# EAGLE library part CYUSB3014 (library ICs)
EZ-USB™ FX3 USB 5 Gbps Peripheral Controller
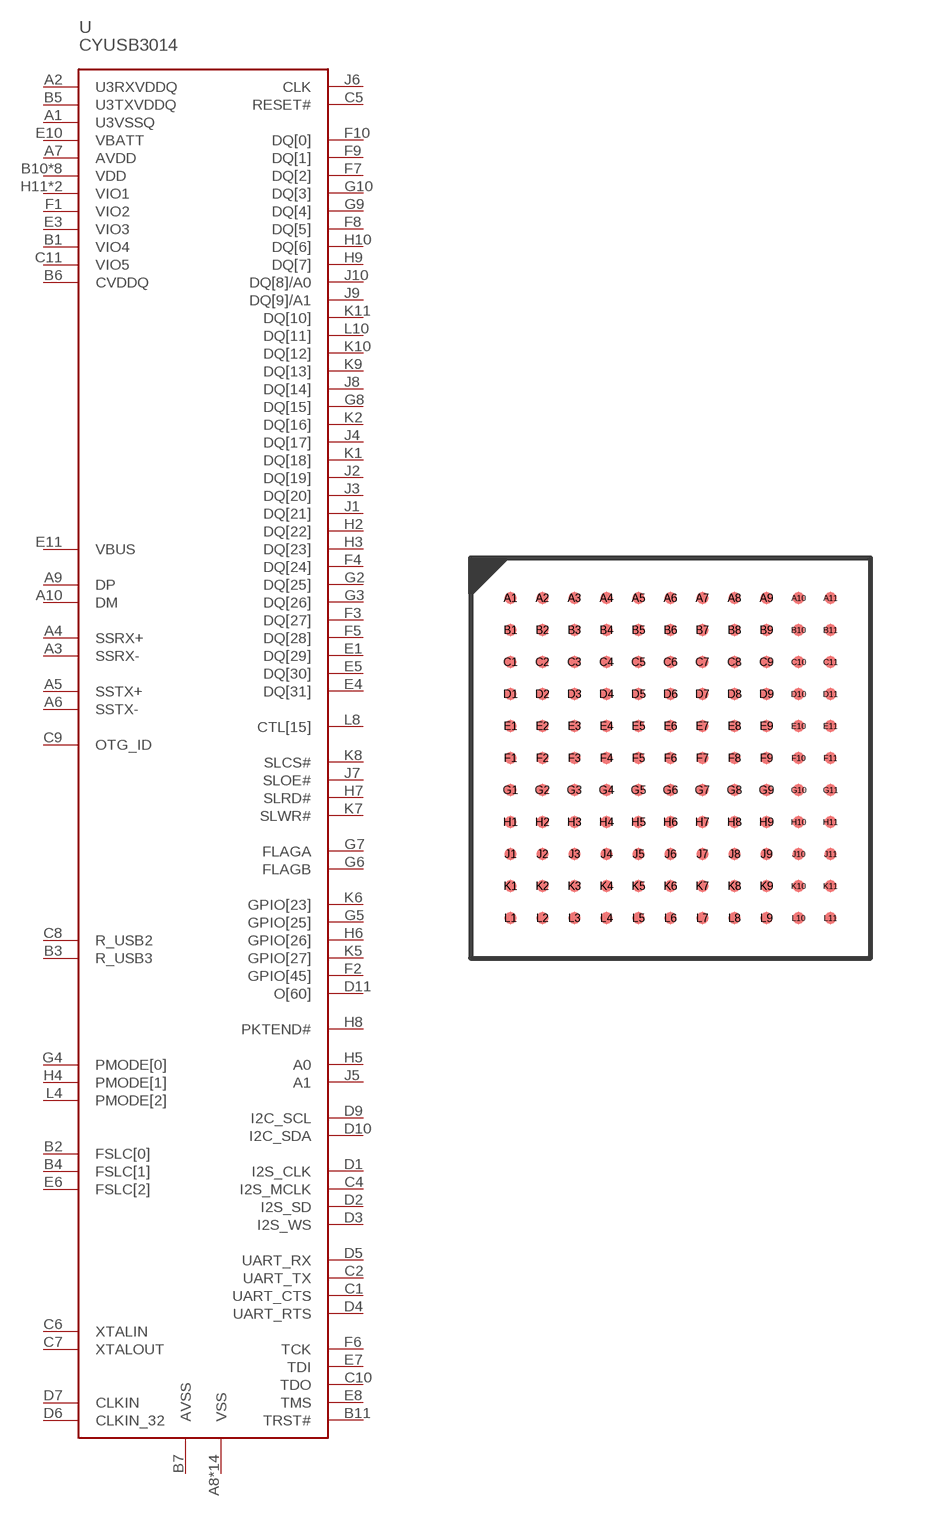
[diagram p327: symbol with the pads of BGA121; footprint BGA121]

Designator prefix U

## CYUSB3014-BZXC (DIGIKEY: 448-CYUSB3014-BZXC-ND; HEIGHT: 1.5; PRICE_PER: 24.48; VALUE: CYUSB3014)  [BGA121]
A1  U3VSSQ
A2  U3RXVDDQ
A3  SSRX-
A4  SSRX+
A5  SSTX+
A6  SSTX-
A7  AVDD
A8  VSS
A9  DP
A10  DM
B1  VIO4
B2  FSLC[0]
B3  R_USB3
B4  FSLC[1]
B5  U3TXVDDQ
B6  CVDDQ
B7  AVSS
B8  VSS
B9  VSS
B10  VDD
B11  TRST#
C1  UART_CTS
C2  UART_TX
C3  VDD
C4  I2S_MCLK
C5  RESET#
C6  XTALIN
C7  XTALOUT
C8  R_USB2
C9  OTG_ID
C10  TDO
C11  VIO5
D1  I2S_CLK
D2  I2S_SD
D3  I2S_WS
D4  UART_RTS
D5  UART_RX
D6  CLKIN_32
D7  CLKIN
D8  VSS
D9  I2C_SCL
D10  I2C_SDA
D11  O[60]
E1  DQ[29]
E2  VSS
E3  VIO3
E4  DQ[31]
E5  DQ[30]
E6  FSLC[2]
E7  TDI
E8  TMS
E9  VDD
E10  VBATT
E11  VBUS
F1  VIO2
F2  GPIO[45]
F3  DQ[27]
F4  DQ[24]
F5  DQ[28]
F6  TCK
F7  DQ[2]
F8  DQ[5]
F9  DQ[1]
F10  DQ[0]
F11  VDD
G1  VSS
G2  DQ[25]
G3  DQ[26]
G4  PMODE[0]
G5  GPIO[25]
G6  FLAGB
G7  FLAGA
G8  DQ[15]
G9  DQ[4]
G10  DQ[3]
G11  VSS
H1  VDD
H2  DQ[22]
H3  DQ[23]
H4  PMODE[1]
H5  A0
H6  GPIO[26]
H7  SLRD#
H8  PKTEND#
H9  DQ[7]
H10  DQ[6]
H11  VIO1
J1  DQ[21]
J2  DQ[19]
J3  DQ[20]
J4  DQ[17]
J5  A1
J6  CLK
J7  SLOE#
J8  DQ[14]
J9  DQ[9]/A1
J10  DQ[8]/A0
J11  VDD
K1  DQ[18]
K2  DQ[16]
K3  VSS
K4  VSS
K5  GPIO[27]
K6  GPIO[23]
K7  SLWR#
K8  SLCS#
K9  DQ[13]
K10  DQ[12]
K11  DQ[10]
L1  VSS
L2  VSS
L3  VSS
L4  PMODE[2]
L5  VDD
L6  VSS
L7  VDD
L8  CTL[15]
L9  VIO1
L10  DQ[11]
L11  VSS

## Footprint BGA121 (pad centres in mm)
smd 0.3 x 0.3: A1 -4,4; A2 -3.2,4; A3 -2.4,4; A4 -1.6,4; A5 -0.8,4; A6 0,4; A7 0.8,4; A8 1.6,4; A9 2.4,4; A10 3.2,4; A11 4,4; B1 -4,3.2; B2 -3.2,3.2; B3 -2.4,3.2; B4 -1.6,3.2; B5 -0.8,3.2; B6 0,3.2; B7 0.8,3.2; B8 1.6,3.2; B9 2.4,3.2; B10 3.2,3.2; B11 4,3.2; C1 -4,2.4; C2 -3.2,2.4; C3 -2.4,2.4; C4 -1.6,2.4; C5 -0.8,2.4; C6 0,2.4; C7 0.8,2.4; C8 1.6,2.4; C9 2.4,2.4; C10 3.2,2.4; C11 4,2.4; D1 -4,1.6; D2 -3.2,1.6; D3 -2.4,1.6; D4 -1.6,1.6; D5 -0.8,1.6; D6 0,1.6; D7 0.8,1.6; D8 1.6,1.6; D9 2.4,1.6; D10 3.2,1.6; D11 4,1.6; E1 -4,0.8; E2 -3.2,0.8; E3 -2.4,0.8; E4 -1.6,0.8; E5 -0.8,0.8; E6 0,0.8; E7 0.8,0.8; E8 1.6,0.8; E9 2.4,0.8; E10 3.2,0.8; E11 4,0.8; F1 -4,0; F2 -3.2,0; F3 -2.4,0; F4 -1.6,0; F5 -0.8,0; F6 0,0; F7 0.8,0; F8 1.6,0; F9 2.4,0; F10 3.2,0; F11 4,0; G1 -4,-0.8; G2 -3.2,-0.8; G3 -2.4,-0.8; G4 -1.6,-0.8; G5 -0.8,-0.8; G6 0,-0.8; G7 0.8,-0.8; G8 1.6,-0.8; G9 2.4,-0.8; G10 3.2,-0.8; G11 4,-0.8; H1 -4,-1.6; H2 -3.2,-1.6; H3 -2.4,-1.6; H4 -1.6,-1.6; H5 -0.8,-1.6; H6 0,-1.6; H7 0.8,-1.6; H8 1.6,-1.6; H9 2.4,-1.6; H10 3.2,-1.6; H11 4,-1.6; J1 -4,-2.4; J2 -3.2,-2.4; J3 -2.4,-2.4; J4 -1.6,-2.4; J5 -0.8,-2.4; J6 0,-2.4; J7 0.8,-2.4; J8 1.6,-2.4; J9 2.4,-2.4; J10 3.2,-2.4; J11 4,-2.4; K1 -4,-3.2; K2 -3.2,-3.2; K3 -2.4,-3.2; K4 -1.6,-3.2; K5 -0.8,-3.2; K6 0,-3.2; K7 0.8,-3.2; K8 1.6,-3.2; K9 2.4,-3.2; K10 3.2,-3.2; K11 4,-3.2; L1 -4,-4; L2 -3.2,-4; L3 -2.4,-4; L4 -1.6,-4; L5 -0.8,-4; L6 0,-4; L7 0.8,-4; L8 1.6,-4; L9 2.4,-4; L10 3.2,-4; L11 4,-4